# EAGLE library part 452404020202 (library Eagle_SWITCHES (rev18c))
9x3.5mm THT Same Side Connection Slide Switch WS-SLTV MATERIAL PROPERTIES: Cover Material Stainless Steel Actuator Material PA9T Actuator Flammability Rating UL94 HB Actuator Color Black Frame Material LCP Frame Flammability Rating UL94 V-0 Frame Color Black Contact Material Copper Alloy Contact Plating Silver Terminal Material Copper Alloy Terminal Plating Silver ELECTRICAL PROPERTIES: Rated Current Switching 300 mA Rated Voltage Switching 6 V (DC) Contact Resistance Initial 70 mΩ Contact Resistance After Life Test 200 mΩ Insulation Resistance 100 MΩ Withstanding Voltage 500 V (AC) MECHANICAL PROPERTIES: Operation Force 450 g Schematic DPDT Switching Function On-On GENERAL INFORMATION: Operating Temperature -40 °C up to +85 °C Storage Temperature (in original packaging) -40 °C up to +85 °C PACKAGING PROPERTIES:: Packaging Bulk Packaging Unit (Qty.) 200 <http://katalog.we-online.de/media/images/v2/Family_WS-SLTV_452404020202.jpg> Details see: http://katalog.we-online.de/em/datasheet/452404020202.pdf 2017 (C) Würth Elektronik
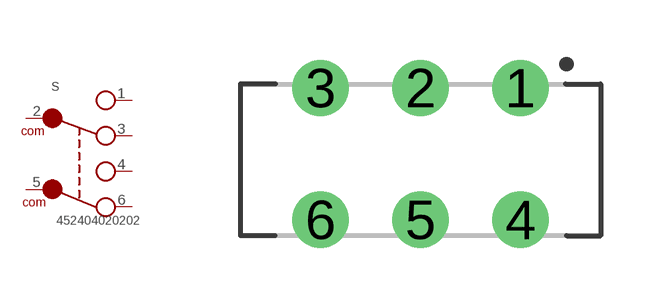
[diagram p139: symbol with the pads of 452404020202; footprint 452404020202]

Designator prefix S

## 452404020202  [452404020202]
1  1  pas
2  COM  pas
3  3  pas
4  4  pas
5  COM1  pas
6  6  pas

## Footprint 452404020202 (pad centres in mm)
drill 0.9: 1 2.5,1.65; 2 0,1.65; 3 -2.5,1.65; 4 2.5,-1.65; 5 0,-1.65; 6 -2.5,-1.65